# Altium footprint library common.PcbLib: 42 footprints (part 3 of 3)
Each footprint in its own frame and in the unit in brackets; x right, y up, seen from the top. Pads: shape width x height; smd on the part's side, far side on the other; paste and mask are expansions set on the pad; w line width, h text height; cw(c..) or ccw(c..) is an arc to the next point about the centre after c.
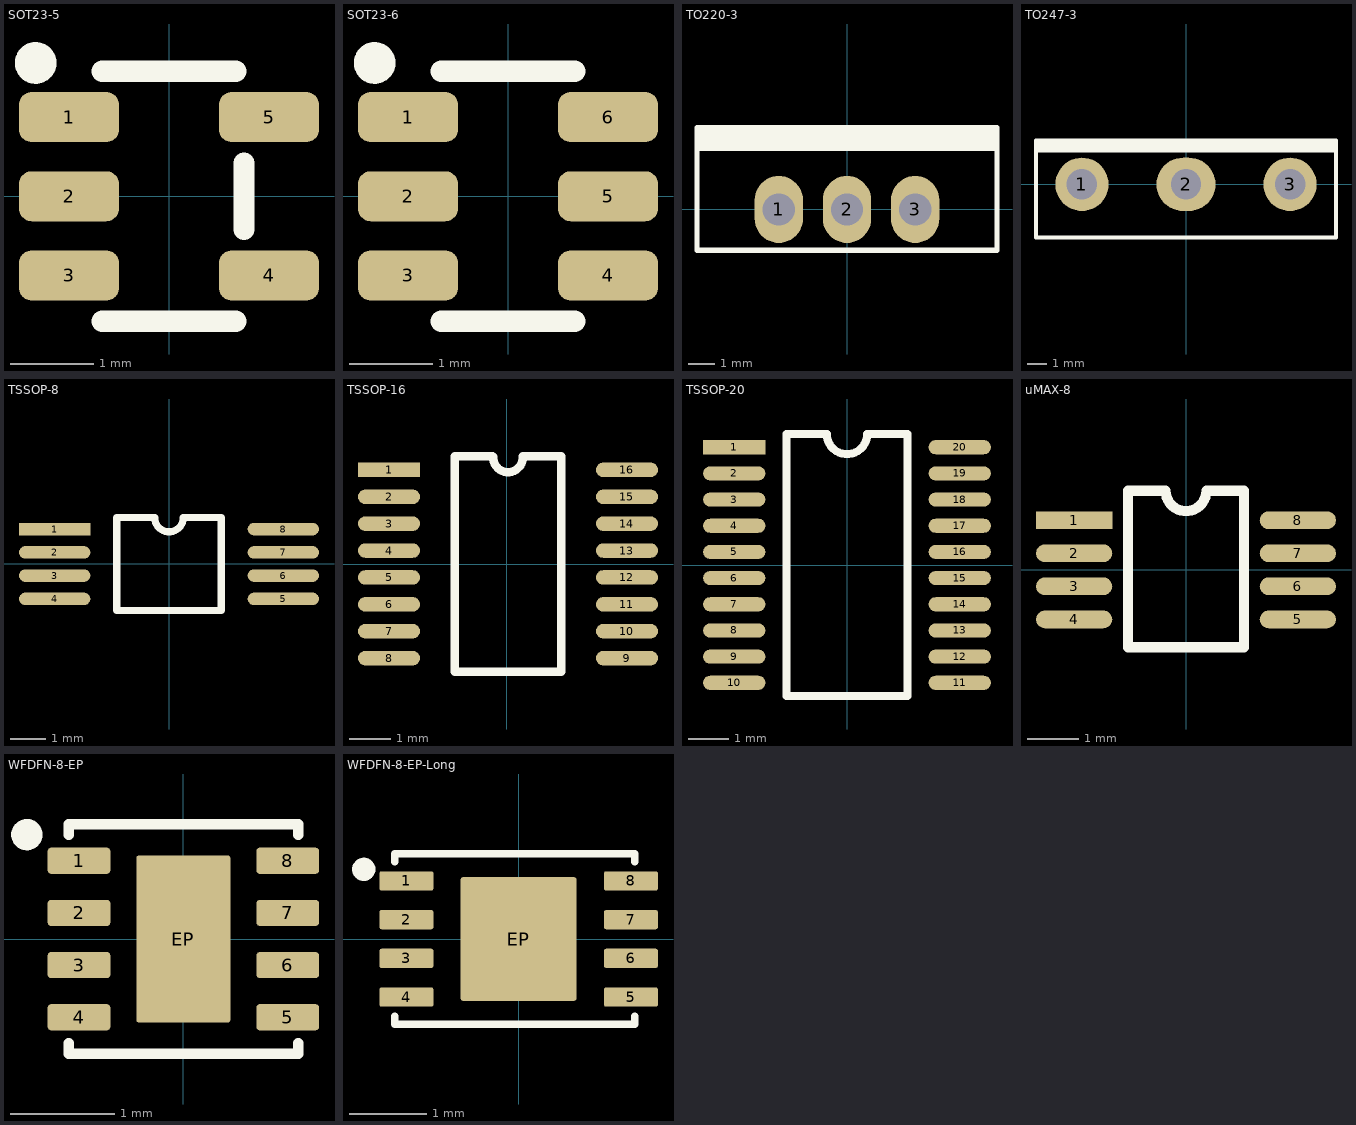
[diagram p2: the footprints below, top view; thin cyan lines are the x and y axes]

## SOT23-5 [mm] "SOT23-5 (SOT-25) 0.95mm pitch, 5 pins"
pads (5):
  rrect50% 1.2x0.6 smd: 1(-1.2,0.95) 2(-1.2,0) 3(-1.2,-0.95) 4(1.2,-0.95) 5(1.2,0.95)
Top Overlay:
  circle w0.25: c-1.6,1.6 r0.125
  lines w0.254: -0.8,-1.5 0.8,-1.5 ; -0.8,1.5 0.8,1.5 ; 0.9,-0.4 0.9,0.4
3D body: height 1.45, standoff 0, extent 0.9,0.2 0.9,0.2
3D body "CircuitWorks-SOT-23-5.step": height 1.11, standoff 0.01, extent -1.25,-1.5 1.25,1.5

## SOT23-6 [mm] "SOT23, 0.95mm pitch, 6 pins"
pads (6):
  rrect50% 1.2x0.6 smd: 1(-1.2,0.95) 2(-1.2,0) 3(-1.2,-0.95) 4(1.2,-0.95) 5(1.2,0) 6(1.2,0.95)
Top Overlay:
  circle w0.25: c-1.6,1.6 r0.125
  lines w0.254: -0.8,-1.5 0.8,-1.5 ; -0.8,1.5 0.8,1.5
3D body "User Library-SOT23-6-2.step": height 1.45, standoff 0, extent -1.4,-1.45 1.4,1.45

## TO220-3 [mm] "3-lead TO-220 package, vertical"
pads (3):
  oval 1.8x2.5 hole 1.2: 1(-2.54,0) 2(0,0) 3(2.54,0)
Top Overlay:
  rectangle: -5.588,2.286 5.588,3.048
  lines w0.2: -5.588,2.286 5.588,2.286 ; -5.588,-1.524 5.588,-1.524 5.588,3.048 -5.588,3.048 -5.588,-1.524
3D body "User Library-TO220AB.step": height 19.33, standoff -10, extent -5.606,-1.495 5.607,3.195

## TO247-3 [mm] "3 lead TO-247 package, vertical"
pads (3):
  round 2.8 hole 1.6: 1(-5.461,0) 3(5.461,0)
  oval 3.1x2.8 / inner round 2.8 / far side round 2.8 hole 1.6: 2(0,0)
Top Overlay:
  rectangle: -7.874,1.778 7.874,2.306
  lines w0.2: -7.874,1.778 7.874,1.778 ; -7.874,-2.794 -7.874,2.306 7.874,2.306 7.874,-2.794 -7.874,-2.794
3D body "User Library-PG-TO247-3-21.step": height 25.28, standoff -15.85, extent -7.95,-2.794 7.95,2.306

## TSSOP-8 [mm] "0.65mm pitch TSSOP"
pads (8):
  rect 2x0.35 smd: 1(-3.2,0.975)
  oval 2x0.35 smd: 2(-3.2,0.325) 3(-3.2,-0.325) 4(-3.2,-0.975) 5(3.2,-0.975) 6(3.2,-0.325) 7(3.2,0.325) 8(3.2,0.975)
Top Overlay:
  lines w0.2: -1.465,-1.3 -1.465,1.3 -0.4,1.3 ccw(c0,1.3) 0.4,1.3 1.465,1.3 1.465,-1.3 -1.465,-1.3
3D body "User Library-TSS0P8-1.step": height 1.09, standoff 0, extent -3.125,-1.5 3.155,1.5

## TSSOP-16 [mm] "0.65mm pitch TSSOP"
pads (16):
  rect 1.5x0.35 smd: 1(-2.85,2.275)
  oval 1.5x0.35 smd: 2(-2.85,1.625) 3(-2.85,0.975) 4(-2.85,0.325) 5(-2.85,-0.325) 6(-2.85,-0.975) 7(-2.85,-1.625) 8(-2.85,-2.275) 9(2.9,-2.275) 10(2.9,-1.625) 11(2.9,-0.975) 12(2.9,-0.325) 13(2.9,0.325) 14(2.9,0.975) 15(2.9,1.625) 16(2.9,2.275)
Top Overlay:
  lines w0.203: -0.35,2.6 -1.262,2.6 -1.262,-2.6 1.312,-2.6 1.312,2.6 0.4,2.6 ; -0.331,2.596 ccw(c0.025,2.575) 0.381,2.601
3D body "User Library-tssop16-2.step": height 1.2, standoff 0, extent -3.2,-2.55 3.2,2.55

## TSSOP-20 [mm] "0.65mm pitch TSSOP"
pads (20):
  rect 1.55x0.35 smd: 1(-2.8,2.925)
  oval 1.55x0.35 smd: 2(-2.8,2.275) 3(-2.8,1.625) 4(-2.8,0.975) 5(-2.8,0.325) 6(-2.8,-0.325) 7(-2.8,-0.975) 8(-2.8,-1.625) 9(-2.8,-2.275) 10(-2.8,-2.925) 11(2.8,-2.925) 12(2.8,-2.275) 13(2.8,-1.625) 14(2.8,-0.975) 15(2.8,-0.325) 16(2.8,0.325) 17(2.8,0.975) 18(2.8,1.625) 19(2.8,2.275) 20(2.8,2.925)
Top Overlay:
  lines w0.2: -1.5,-3.25 1.5,-3.25 1.5,3.25 0.5,3.25 cw(c0,3.25) -0.5,3.25 -1.5,3.25 -1.5,-3.25
3D body "User Library-TSSOP-20-2.STEP": height 1.21, standoff 0.01, extent -3.2,-3.25 3.2,3.25

## uMAX-8 [mm] "Maxium uMAX 8-pin package"
pads (8):
  rect 1.5x0.35 smd: 1(-2.2,0.975)
  oval 1.5x0.35 smd: 2(-2.2,0.325) 3(-2.2,-0.325) 4(-2.2,-0.975) 5(2.2,-0.975) 6(2.2,-0.325) 7(2.2,0.325) 8(2.2,0.975)
Top Overlay:
  lines w0.2: -1.143,-1.524 -1.143,1.554 -0.4,1.554 ccw(c0,1.554) 0.4,1.554 1.143,1.554 1.143,-1.524 -1.143,-1.524
3D body "SW3dPS-uMAX8.STEP": height 0.95, standoff 0, extent -2.5,-1.499 2.5,1.501

## WFDFN-8-EP [mm] "8 pin 0.5mm pitch WSON package, 2x2mm"
pads (9):
  rrect25% 0.6x0.25 smd: 1(-1,0.75) 2(-1,0.25) 3(-1,-0.25) 4(-1,-0.75) 5(1,-0.75) 6(1,-0.25) 7(1,0.25) 8(1,0.75)
  rrect5% 0.9x1.6 smd paste-0.2: EP(0,0)
Top Overlay:
  circle w0.15: c-1.5,1 r0.075
  lines w0.1: -1.1,-1 -1.1,-1.1 1.1,-1.1 1.1,-1 ; -1.1,1 -1.1,1.1 1.1,1.1 1.1,1
3D body "User Library-SON8-2x2mm-1.step": height 0.81, standoff 0.01, extent -1,-1 1,1

## WFDFN-8-EP-Long [mm] "8 pin 0.5mm pitch WSON package, 2x3mm"
pads (9):
  rrect25% 0.7x0.25 smd: 1(-1.45,0.75) 2(-1.45,0.25) 3(-1.45,-0.25) 4(-1.45,-0.75) 5(1.45,-0.75) 6(1.45,-0.25) 7(1.45,0.25) 8(1.45,0.75)
  rrect5% 1.5x1.6 smd paste-0.3: EP(0,0)
Top Overlay:
  circle w0.15: c-2,0.9 r0.075
  lines w0.1: -1.6,-1 -1.6,-1.1 1.5,-1.1 1.5,-1 ; -1.6,1 -1.6,1.1 1.5,1.1 1.5,1
3D body "User Library-DFN-8-2.step": height 0.91, standoff 0.01, extent -1.523,-1.006 1.517,0.994